# EAGLE library part PULSEDAQ (library Documentation)
BM /w xmega256A3U
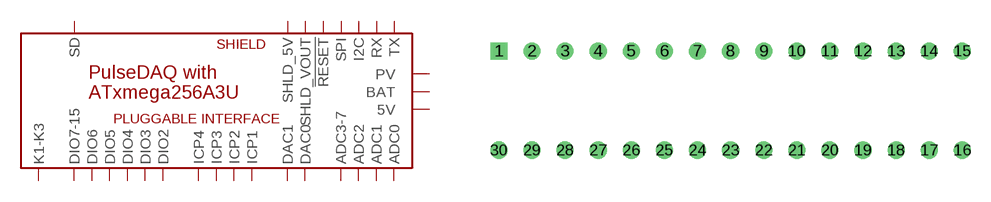
[diagram p7: symbol with the pads of NA-30; footprint NA-30]

Designator prefix -

## PULSEDAQ  [NA-30]
1  !RESET
2  5V
3  ADC0
4  ADC1
5  ADC2
6  ADC3-7
7  BAT
8  DAC0
9  DAC1
10  DIO2
11  DIO3
12  DIO4
13  DIO5
14  DIO6
15  DIO7-15
16  I2C
17  ICP1
18  ICP2
19  ICP3
20  ICP4
21  K1-K3
22  PV
23  RX
24  SD
25  SHLD_5V
26  SHLD_VOUT
27  SPI
28  TX

## Footprint NA-30 (pad centres in mm)
drill 0.8 square: 1 -17.78,3.81
drill 0.8: 2 -15.24,3.81; 3 -12.7,3.81; 4 -10.16,3.81; 5 -7.62,3.81; 6 -5.08,3.81; 7 -2.54,3.81; 8 0,3.81; 9 2.54,3.81; 10 5.08,3.81; 11 7.62,3.81; 12 10.16,3.81; 13 12.7,3.81; 14 15.24,3.81; 15 17.78,3.81; 16 17.78,-3.81; 17 15.24,-3.81; 18 12.7,-3.81; 19 10.16,-3.81; 20 7.62,-3.81; 21 5.08,-3.81; 22 2.54,-3.81; 23 0,-3.81; 24 -2.54,-3.81; 25 -5.08,-3.81; 26 -7.62,-3.81; 27 -10.16,-3.81; 28 -12.7,-3.81; 29 -15.24,-3.81; 30 -17.78,-3.81